# Altium footprint library Fontes.PcbLib: 1 footprints
Each footprint in its own frame and in the unit in brackets; x right, y up, seen from the top. Pads: shape width x height; smd on the part's side, far side on the other; paste and mask are expansions set on the pad; w line width, h text height; cw(c..) or ccw(c..) is an arc to the next point about the centre after c.
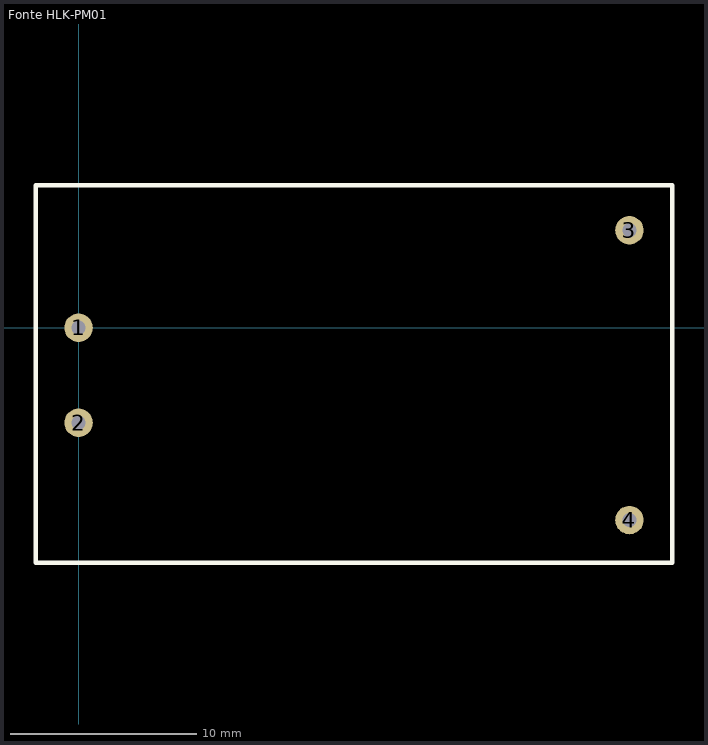
[diagram p0: the footprint, top view; thin cyan lines are the x and y axes]

## Fonte HLK-PM01 [mil]
pads (4):
  round 60 hole 30: 1(0,0) 2(0,-200) 3(1160,205) 4(1160,-405)
Top Overlay:
  lines w10: -90,-495 -90,300 1250,300 1250,-495 -90,-495